# Altium footprint library power.PcbLib: 6 footprints
Each footprint in its own frame and in the unit in brackets; x right, y up, seen from the top. Pads: shape width x height; smd on the part's side, far side on the other; paste and mask are expansions set on the pad; w line width, h text height; cw(c..) or ccw(c..) is an arc to the next point about the centre after c.
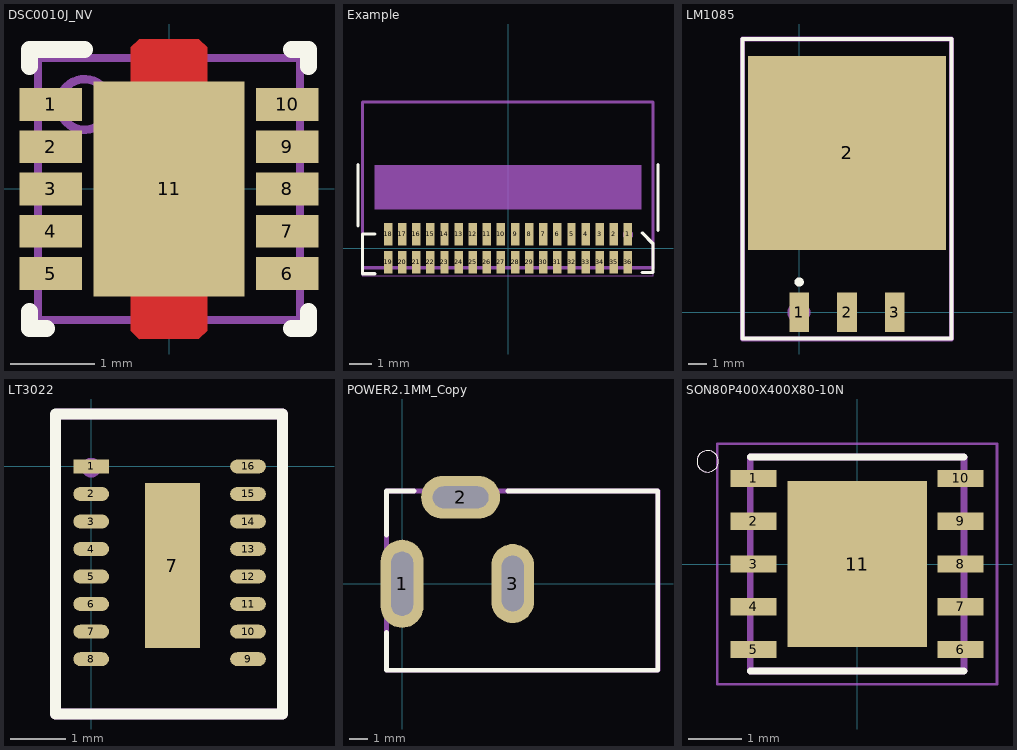
[diagram p0: the footprints below, top view; thin cyan lines are the x and y axes]

## DSC0010J_NV [mm]
pads (11):
  rect 0.74x0.39 smd paste+0 mask-0.07: 1(-1.4,1) 2(-1.4,0.5) 3(-1.4,0) 4(-1.4,-0.5) 5(-1.4,-1) 6(1.4,-1) 7(1.4,-0.5) 8(1.4,0) 9(1.4,0.5) 10(1.4,1)
  rect 1.79x2.54 smd paste-1.187 mask-0.07: 11(0,0)
Top Layer:
  region: -0.35,-1.775 -0.45,-1.675 -0.45,-1.2 -0.775,-1.2 -0.825,-1.15 -0.825,1.15 -0.775,1.2 -0.45,1.2 -0.45,1.675 -0.35,1.775 0.35,1.775 0.45,1.675 0.45,1.2 0.775,1.2 0.825,1.15 0.825,-1.15 0.775,-1.2 0.45,-1.2 0.45,-1.675 0.35,-1.775
Top Overlay:
  lines w0.2: -1.65,-1.45 -1.65,-1.65 -1.45,-1.65 ; -1.65,1.45 -1.65,1.65 -1,1.65 ; 1.45,-1.65 1.65,-1.65 1.65,-1.45 ; 1.45,1.65 1.65,1.65 1.65,1.45
Top Paste:
  region: -0.325,1.36 -0.375,1.41 -0.375,1.65 -0.325,1.7 -0.175,1.7 -0.125,1.65 -0.125,1.41 -0.175,1.36
  region: 0.175,1.36 0.125,1.41 0.125,1.65 0.175,1.7 0.325,1.7 0.375,1.65 0.375,1.41 0.325,1.36
  region: -0.325,-1.7 -0.375,-1.65 -0.375,-1.41 -0.325,-1.36 -0.175,-1.36 -0.125,-1.41 -0.125,-1.65 -0.175,-1.7
  region: 0.125,-1.41 0.125,-1.65 0.175,-1.7 0.325,-1.7 0.375,-1.65 0.375,-1.41 0.325,-1.36 0.175,-1.36
  region: -0.7,0.1 -0.75,0.15 -0.75,1.11 -0.7,1.16 0.7,1.16 0.75,1.11 0.75,0.15 0.7,0.1
  region: -0.75,-0.15 -0.75,-1.11 -0.7,-1.16 0.7,-1.16 0.75,-1.11 0.75,-0.15 0.7,-0.1 -0.7,-0.1
Top Solder:
  region: -0.325,-1.7 -0.375,-1.65 -0.375,-1.2 -0.775,-1.2 -0.825,-1.15 -0.825,1.15 -0.775,1.2 -0.375,1.2 -0.375,1.65 -0.325,1.7 -0.175,1.7 -0.125,1.65 -0.125,1.2 0.125,1.2 0.125,1.65 0.175,1.7 0.325,1.7 0.375,1.65 0.375,1.2 0.775,1.2 0.825,1.15 0.825,-1.15 0.775,-1.2 0.375,-1.2 0.375,-1.65 0.325,-1.7 0.175,-1.7 0.125,-1.65 0.125,-1.2 -0.125,-1.2 -0.125,-1.65 -0.175,-1.7
Top Fab Assembly - M13:
  circle w0.1: c-1,1 r0.3
  lines w0.1: -1.55,-1.55 -1.55,1.55 1.55,1.55 1.55,-1.55 -1.55,-1.55
  text ".Designator" at -1.5,2 h1.27
3D body: height 0.25, standoff 0, extent 0,0 0.254,0.254

## Example [mil] "Example template footprint"
height 59.06
pads (36):
  rect 15x40 smd: 1(212.5,25) 2(187.5,25) 3(162.5,25) 4(137.5,25) 5(112.5,25) 6(87.5,25) 7(62.5,25) 8(37.5,25) 9(12.5,25) 10(-12.5,25) 11(-37.5,25) 12(-62.5,25) 13(-87.5,25) 14(-112.5,25) 15(-137.5,25) 16(-162.5,25) 17(-187.5,25) 18(-212.5,25) 19(-212.5,-25) 20(-187.5,-25) 21(-162.5,-25) 22(-137.5,-25) 23(-112.5,-25) 24(-87.5,-25) 25(-62.5,-25) 26(-37.5,-25) 27(-12.5,-25) 28(12.5,-25) 29(37.5,-25) 30(62.5,-25) 31(87.5,-25) 32(112.5,-25) 33(137.5,-25) 34(162.5,-25) 35(187.5,-25) 36(212.5,-25)
Top Overlay:
  lines w5.91: -265.75,39.37 -265.75,147.64 ; -235.83,-45.05 -257.87,-45.05 -257.87,24.95 -235.83,24.95 ; 237.87,-43.08 256.89,-43.08 256.89,7.91 237.87,26.92 ; 265.75,31.5 265.75,147.64
Top Fab Assembly - M13:
  circle w10: c212.6,23.62 r3.94
  lines w5.91: -257.87,-34.45 256.89,-34.45 256.89,258.86 -257.87,258.86 -257.87,-34.45
  text ".Designator" at -196.85,88.58 h39.37
Top Courtyard - M15:
  lines w1.97: -257.87,-49.21 256.89,-49.21 256.89,258.86 -257.87,258.86 -257.87,-49.21
Top Adhesive/Glue - M17:
  rectangle: -236.22,68.9 236.22,147.64
3D body "A79025-001.STEP": height 71, standoff 0.5, extent -257.5,-34.5 257.5,258.5

## LM1085 [mm] "D2-PAK; 3 Leads; Body 14.4 (inc. leads) x 10.4 mm (LxW max)"
height 4.65
pads (4):
  rect 1.05x2.1 smd: 1(0,0) 2(2.54,0) 3(5.08,0)
  rect 10.5x10.3 smd: 2(2.54,8.45)
Top Overlay:
  circle w0.25: c0,1.6 r0.125
  lines w0.2: -3.01,-1.4 8.09,-1.4 8.09,-0.95 8.09,13.5 8.09,14.5 -3.01,14.5 -3.01,13.5 -3.01,-0.95 -3.01,-1.4
Mechanical 29:
  circle w0.6: c-0.01,-0.025 r0.305
  lines w0.254: -3.01,-1.425 -3.01,14.5 8.09,14.5 8.09,-1.425 -3.01,-1.425
  text ".Designator" at 1.365,6.05 h1.52
3D body "KTT0003B.stp": height 4.54, standoff 0, extent -2.54,-0.872 7.62,14.368

## LT3022 [mm]
pads (17):
  rect 0.65x0.25 smd: 1(0,0)
  oval 0.65x0.25 smd: 2(0,-0.5) 3(0,-1) 4(0,-1.5) 5(0,-2) 6(0,-2.5) 7(0,-3) 8(0,-3.5) 9(2.85,-3.5) 10(2.85,-3) 11(2.85,-2.5) 12(2.85,-2) 13(2.85,-1.5) 14(2.85,-1) 15(2.85,-0.5) 16(2.85,0)
  rect 1x3 smd: 7(1.475,-1.8)
Top Overlay:
  lines w0.2: -0.649,-4.497 3.476,-4.497 3.476,0.25 3.476,0.953 -0.649,0.953 -0.649,0.25 -0.649,-4.497
Mechanical 29:
  circle w0.254: c0.001,-0.022 r0.05
  lines w0.2: -0.649,-4.497 -0.649,0.928 -0.624,0.953 3.476,0.953 3.476,-4.497 -0.649,-4.497
  text ".Designator" at 0.305,-2.692 h1.52
3D body "DFN-16_DHC.step": height 0.8, standoff 0, extent -0.124,-4.297 2.976,0.803

## POWER2.1MM_Copy [mil]
height 318.9
pads (3):
  oval 92x190 hole 47 slot 138 at 90 deg: 1(0,0)
  oval 170x92 hole 47 slot 120 at 0 deg: 2(126,186.17)
  oval 92x170 hole 47 slot 120 at 90 deg: 3(238.19,0.55)
Top Overlay:
  lines w10: -33.46,-104.33 -33.46,-186.02 551,-186.02 551,199.8 227.36,199.8 ; -33.46,104.33 -33.46,199.8 25.59,199.8
Mechanical 29:
  lines w10: -33.46,-186.02 -33.46,199.8 551.18,199.8 551.18,-186.02 -33.46,-186.02
  text ".Designator" at 110,-19 h60
3D body "CUI_PJ-002AH.step": height 433.57, standoff -137.29, extent -24.8,-178.35 542.12,191.73

## SON80P400X400X80-10N [mm]
pads (11):
  rect 0.86x0.32 smd: 1(-1.935,1.6) 2(-1.935,0.8) 3(-1.935,0) 4(-1.935,-0.8) 5(-1.935,-1.6) 6(1.935,-1.6) 7(1.935,-0.8) 8(1.935,0) 9(1.935,0.8) 10(1.935,1.6)
  rect 2.61x3.1 smd: 11(0,0)
Top Overlay:
  circle w0: c-2.795,1.92 r0.2
  lines w0.127: -2,-2 2,-2 ; -2,2 2,2
Top Paste:
  region: -0.727,0.775 0.653,0.775 0.653,-0.863 -0.727,-0.863
Board Outline - M1:
  circle w0: c-2.795,1.92 r0.2
  lines w0.127: -2,-2 -2,2 2,2 2,-2 -2,-2
Mechanical 4:
  lines w0.05: -2.615,-2.25 -2.615,2.25 2.615,2.25 2.615,-2.25 -2.615,-2.25